# Altium footprint library MainBoard.PcbLib: 5 footprints
Each footprint in its own frame and in the unit in brackets; x right, y up, seen from the top. Pads: shape width x height; smd on the part's side, far side on the other; paste and mask are expansions set on the pad; w line width, h text height; cw(c..) or ccw(c..) is an arc to the next point about the centre after c.
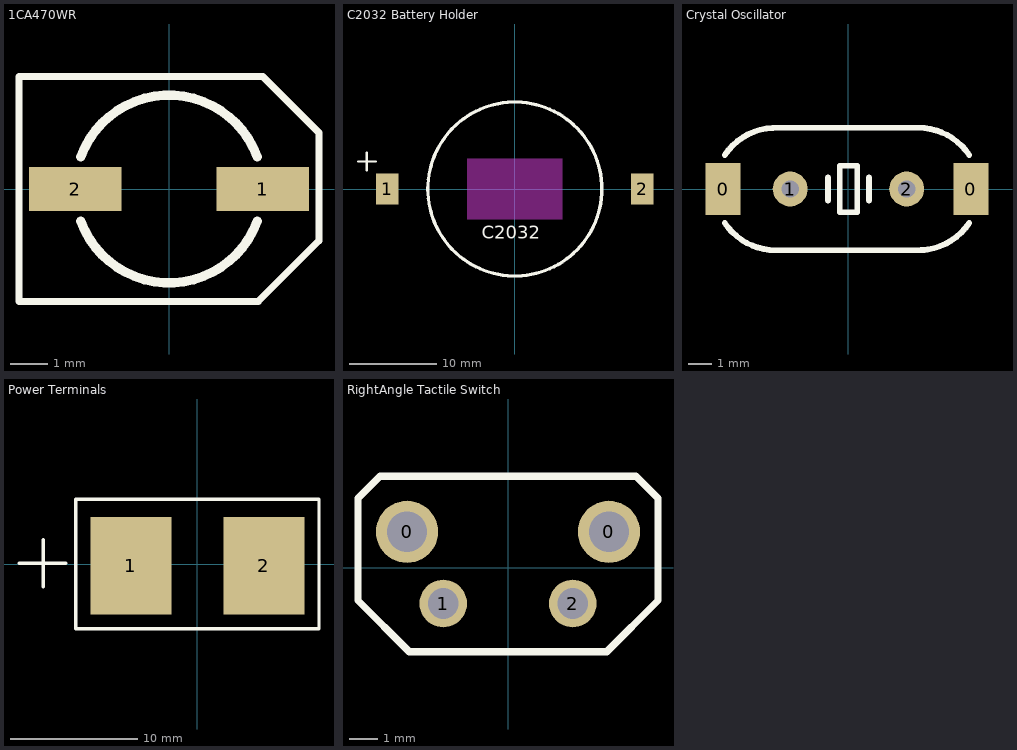
[diagram p0: the footprints below, top view; thin cyan lines are the x and y axes]

## 1CA470WR [mm]
pads (2):
  rect 2.5x1.2 smd: 1(2.54,0) 2(-2.54,0)
Top Overlay:
  lines w0.2: -4.064,-3.048 -4.064,0.936 -4.064,3.048 2.54,3.048 4.064,1.524 4.064,-1.397 2.413,-3.048 -4.064,-3.048
  lines w0.254: -2.39,-0.87 ccw(c0,0) 2.39,-0.87 ; -2.39,0.87 cw(c0,0) 2.39,0.87

## C2032 Battery Holder [mil]
pads (2):
  rect 102x142 smd: 1(-577,0) 2(577,0)
Top Overlay:
  circle w15: c0,0 r393.7
  lines w10: -710,125 -630,125 ; -670,85 -670,165
  text "C2032" at -150,-225 h60
Keep-Out Layer:
  rectangle: -216,-138 216,138

## Crystal Oscillator [mil]
pads (4):
  rect 60x90 smd: 0(-215,0) 0(210,0)
  round 60 hole 30: 1(-100,0) 2(100,0)
Top Overlay:
  lines w10: -212.37,-58.24 ccw(c-125,0) -125,-105 130,-105 ; -212.37,58.24 cw(c-125,0) -129.99,104.88 ; -130,105 130,105 ; -35,-20 -35,20 ; 35,-20 35,20 ; 120,105 cw(c120,0) 207.37,58.24 ; 124.99,-104.88 ccw(c120,0) 207.37,-58.24 ; -15,-40 -15,40 15,40 15,-40 -15,-40

## Power Terminals [mil]
pads (2):
  rect 250x300 smd: 1(-205,-5) 2(205,-5)
Top Overlay:
  lines w10: -550,2.5 -405,2.5 ; -475,-70 -475,75 ; -375,-200 375,-200 375,200 -375,200 -375,-200

## RightAngle Tactile Switch [mil]
pads (4):
  round 85 hole 55: 0(-138,49) 0(138,49)
  round 65 hole 42: 1(-88.5,-49) 2(88.5,-49)
Top Overlay:
  lines w10: -205,-45 -205,95 -175,125 175,125 205,95 205,-45 135,-115 -135,-115 -205,-45